# Altium schematic symbol library LEDs.SchLib: 1 symbol
Pins are listed as number, name and electrical type; pins without a type are passive.

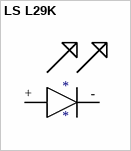
[diagram p0: symbol LS L29K]

## LS L29K
designator *
LS L29K
footprint LS L29K (0603)
pins: + c, - c